# Altium footprint library Imponatornaal_liten.PcbLib: 1 footprints
Each footprint in its own frame and in the unit in brackets; x right, y up, seen from the top. Pads: shape width x height; smd on the part's side, far side on the other; paste and mask are expansions set on the pad; w line width, h text height; cw(c..) or ccw(c..) is an arc to the next point about the centre after c.
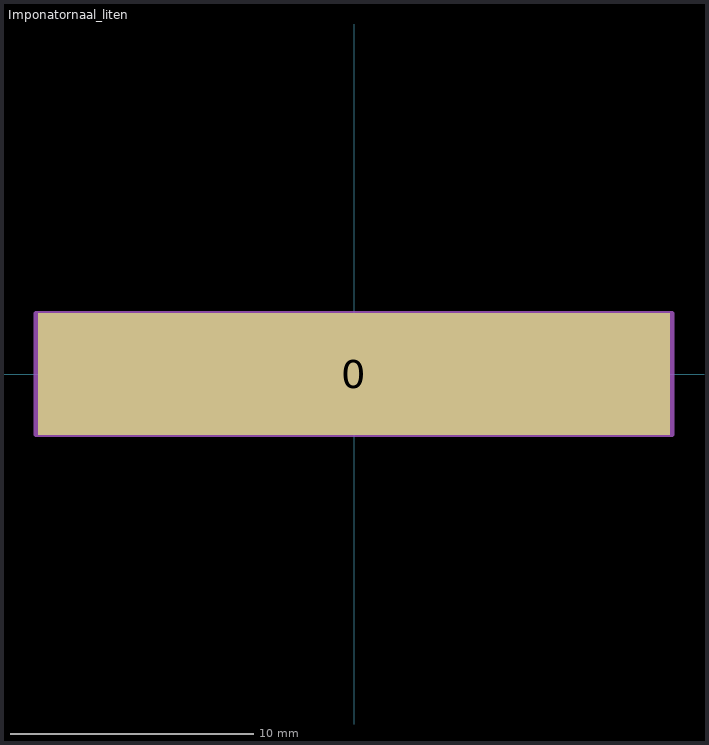
[diagram p0: the footprint, top view; thin cyan lines are the x and y axes]

## Imponatornaal_liten [mm]
height 7
pads (1):
  rect 26x5 smd paste-10: 0(0,0)
Mechanical 13:
  lines w0.2: -13.081,-2.5 -13.081,2.5 13.081,2.5 13.081,-2.5 -13.081,-2.5
Mechanical 15:
  lines w0.2: -0.5,0 0.5,0 ; 0,-0.5 0,0.5 ; -13.081,-2.5 13.081,-2.5 13.081,2.5 -13.081,2.5 -13.081,-2.5
3D body "Brooch Needle v23.step": height 6.8, standoff 0, extent -13.648,-2.503 13.048,4.7